# Altium schematic symbol library SCH - MCU - NUVOTON - NUVOTON ML51XB9AE.SchLib: 1 symbol
Pins are listed as number, name and electrical type; pins without a type are passive.

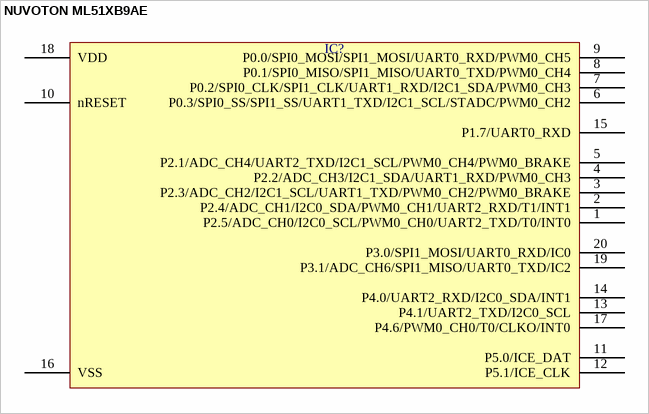
[diagram p0: symbol NUVOTON ML51XB9AE]

## NUVOTON ML51XB9AE
designator IC?  (value not drawn)
pins: 1 P2.5/ADC_CH0/I2C0_SCL/PWM0_CH0/UART2_TXD/T0/INT0, 2 P2.4/ADC_CH1/I2C0_SDA/PWM0_CH1/UART2_RXD/T1/INT1, 3 P2.3/ADC_CH2/I2C1_SCL/UART1_TXD/PWM0_CH2/PWM0_BRAKE, 4 P2.2/ADC_CH3/I2C1_SDA/UART1_RXD/PWM0_CH3, 5 P2.1/ADC_CH4/UART2_TXD/I2C1_SCL/PWM0_CH4/PWM0_BRAKE, 6 P0.3/SPI0_SS/SPI1_SS/UART1_TXD/I2C1_SCL/STADC/PWM0_CH2, 7 P0.2/SPI0_CLK/SPI1_CLK/UART1_RXD/I2C1_SDA/PWM0_CH3, 8 P0.1/SPI0_MISO/SPI1_MISO/UART0_TXD/PWM0_CH4, 9 P0.0/SPI0_MOSI/SPI1_MOSI/UART0_RXD/PWM0_CH5, 10 nRESET, 11 P5.0/ICE_DAT, 12 P5.1/ICE_CLK, 13 P4.1/UART2_TXD/I2C0_SCL, 14 P4.0/UART2_RXD/I2C0_SDA/INT1, 15 P1.7/UART0_RXD, 16 VSS, 17 P4.6/PWM0_CH0/T0/CLKO/INT0, 18 VDD, 19 P3.1/ADC_CH6/SPI1_MISO/UART0_TXD/IC2, 20 P3.0/SPI1_MOSI/UART0_RXD/IC0